# Altium schematic symbol library SCH - POWER - SWITCHMODE - TI TPS54262-Q1PWP.SchLib: 1 symbol
Pins are listed as number, name and electrical type; pins without a type are passive.

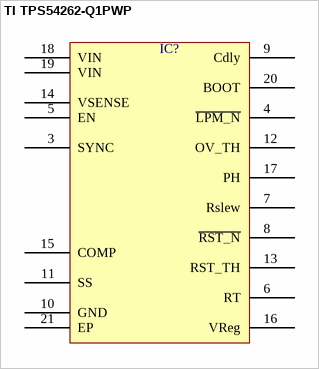
[diagram p0: symbol TI TPS54262-Q1PWP]

## TI TPS54262-Q1PWP
designator IC?  (value not drawn)
pins: 3 SYNC, 4 ~{LPM_N}, 5 EN, 6 RT, 7 Rslew, 8 ~{RST_N}, 9 Cdly, 10 GND, 11 SS, 12 OV_TH, 13 RST_TH, 14 VSENSE, 15 COMP, 16 VReg, 17 PH, 18 VIN, 19 VIN, 20 BOOT, 21 EP